# Altium footprint library prop_2009.PcbLib: 22 footprints (part 2 of 2)
Each footprint in its own frame and in the unit in brackets; x right, y up, seen from the top. Pads: shape width x height; smd on the part's side, far side on the other; paste and mask are expansions set on the pad; w line width, h text height; cw(c..) or ccw(c..) is an arc to the next point about the centre after c.
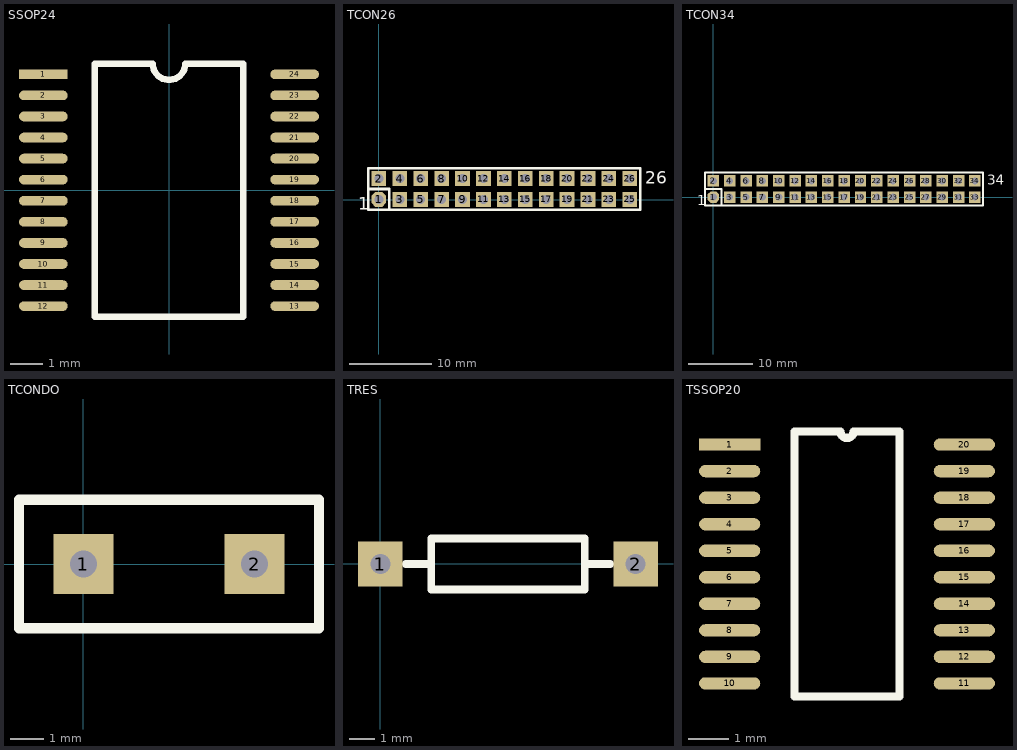
[diagram p1: the footprints below, top view; thin cyan lines are the x and y axes]

## SSOP24 [mm]
pads (24):
  rect 1.5x0.3 smd: 1(-3.875,3.575)
  oval 1.5x0.3 smd: 2(-3.875,2.925) 3(-3.875,2.275) 4(-3.875,1.625) 5(-3.875,0.975) 6(-3.875,0.325) 7(-3.875,-0.325) 8(-3.875,-0.975) 9(-3.875,-1.625) 10(-3.875,-2.275) 11(-3.875,-2.925) 12(-3.875,-3.575) 13(3.875,-3.575) 14(3.875,-2.925) 15(3.875,-2.275) 16(3.875,-1.625) 17(3.875,-0.975) 18(3.875,-0.325) 19(3.875,0.325) 20(3.875,0.975) 21(3.875,1.625) 22(3.875,2.275) 23(3.875,2.925) 24(3.875,3.575)
Top Overlay:
  lines w0.2: -2.29,-3.9 2.29,-3.9 2.29,3.9 0.5,3.9 cw(c0,3.9) -0.5,3.9 -2.29,3.9 -2.29,-3.9

## TCON26 [mil]
pads (26):
  oct 70x70 hole 43.31: 1(0.05,0.35)
  rect 70x70 hole 43.31: 2(0.05,100.35) 3(100.05,0.35) 4(100.05,100.35) 5(200.05,0.35) 6(200.05,100.35) 7(300.05,0.35) 8(300.05,100.35) 9(400.05,0.35) 10(400.05,100.35) 11(500.05,0.35) 12(500.05,100.35) 13(600.05,0.35) 14(600.05,100.35) 15(700.05,0.35) 16(700.05,100.35) 17(800.05,0.35) 18(800.05,100.35) 19(900.05,0.35) 20(900.05,100.35) 21(1000.05,0.35) 22(1000.05,100.35) 23(1100.05,0.35) 24(1100.05,100.35) 25(1200.05,0.35) 26(1200.05,100.35)
Top Overlay:
  lines w12: -49.95,50.35 50.05,50.35 50.05,-49.65 ; -49.95,-49.65 -49.95,150.35 1250.05,150.35 1250.05,-49.65 -49.95,-49.65
  text "26" at 1275.05,75.35 h60
  text "1" at -99.95,-49.65 h60

## TCON34 [mil]
pads (34):
  oct 70x70 hole 43.31: 1(-0.11,-0.8)
  rect 70x70 hole 43.31: 2(-0.11,99.2) 3(99.89,-0.8) 4(99.89,99.2) 5(199.89,-0.8) 6(199.89,99.2) 7(299.89,-0.8) 8(299.89,99.2) 9(399.89,-0.8) 10(399.89,99.2) 11(499.89,-0.8) 12(499.89,99.2) 13(599.89,-0.8) 14(599.89,99.2) 15(699.89,-0.8) 16(699.89,99.2) 17(799.89,-0.8) 18(799.89,99.2) 19(899.89,-0.8) 20(899.89,99.2) 21(999.89,-0.8) 22(999.89,99.2) 23(1099.89,-0.8) 24(1099.89,99.2) 25(1199.89,-0.8) 26(1199.89,99.2) 27(1299.89,-0.8) 28(1299.89,99.2) 29(1399.89,-0.8) 30(1399.89,99.2) 31(1499.89,-0.8) 32(1499.89,99.2) 33(1599.89,-0.8) 34(1599.89,99.2)
Top Overlay:
  lines w12: -50.11,49.2 49.89,49.2 49.89,-50.8 ; -50.11,-50.8 1649.89,-50.8 1649.89,149.2 -50.11,149.2 -50.11,-50.8
  text "34" at 1674.89,74.2 h60
  text "1" at -100.11,-50.8 h60

## TCONDO [mil]
pads (2):
  rect 70x70 hole 31.5: 1(-0.12,0.1) 2(199.88,0.1)
Top Overlay:
  lines w12: -75.12,-74.9 -75.12,75.1 274.88,75.1 274.88,-74.9 -75.12,-74.9

## TRES [mil]
pads (2):
  rect 70x70 hole 31.5: 1(-0.19,-0.07) 2(399.81,-0.07)
Top Overlay:
  lines w12: 39.81,-0.07 79.81,-0.07 ; 319.81,-0.07 359.81,-0.07 ; 79.81,-40.07 79.81,39.93 319.81,39.93 319.81,-40.07 79.81,-40.07

## TSSOP20 [mm]
pads (20):
  rect 1.5x0.3 smd: 1(2.875,-2.925)
  oval 1.5x0.3 smd: 2(2.875,-3.575) 3(2.875,-4.225) 4(2.875,-4.875) 5(2.875,-5.525) 6(2.875,-6.175) 7(2.875,-6.825) 8(2.875,-7.475) 9(2.875,-8.125) 10(2.875,-8.775) 11(8.625,-8.775) 12(8.625,-8.125) 13(8.625,-7.475) 14(8.625,-6.825) 15(8.625,-6.175) 16(8.625,-5.525) 17(8.625,-4.875) 18(8.625,-4.225) 19(8.625,-3.575) 20(8.625,-2.925)
Top Overlay:
  lines w0.2: 4.46,-9.1 7.04,-9.1 7.04,-2.6 5.913,-2.6 cw(c5.75,-2.6) 5.588,-2.6 4.46,-2.6 4.46,-9.1